# Altium footprint library Transformers.PcbLib: 8 footprints
Each footprint in its own frame and in the unit in brackets; x right, y up, seen from the top. Pads: shape width x height; smd on the part's side, far side on the other; paste and mask are expansions set on the pad; w line width, h text height; cw(c..) or ccw(c..) is an arc to the next point about the centre after c.
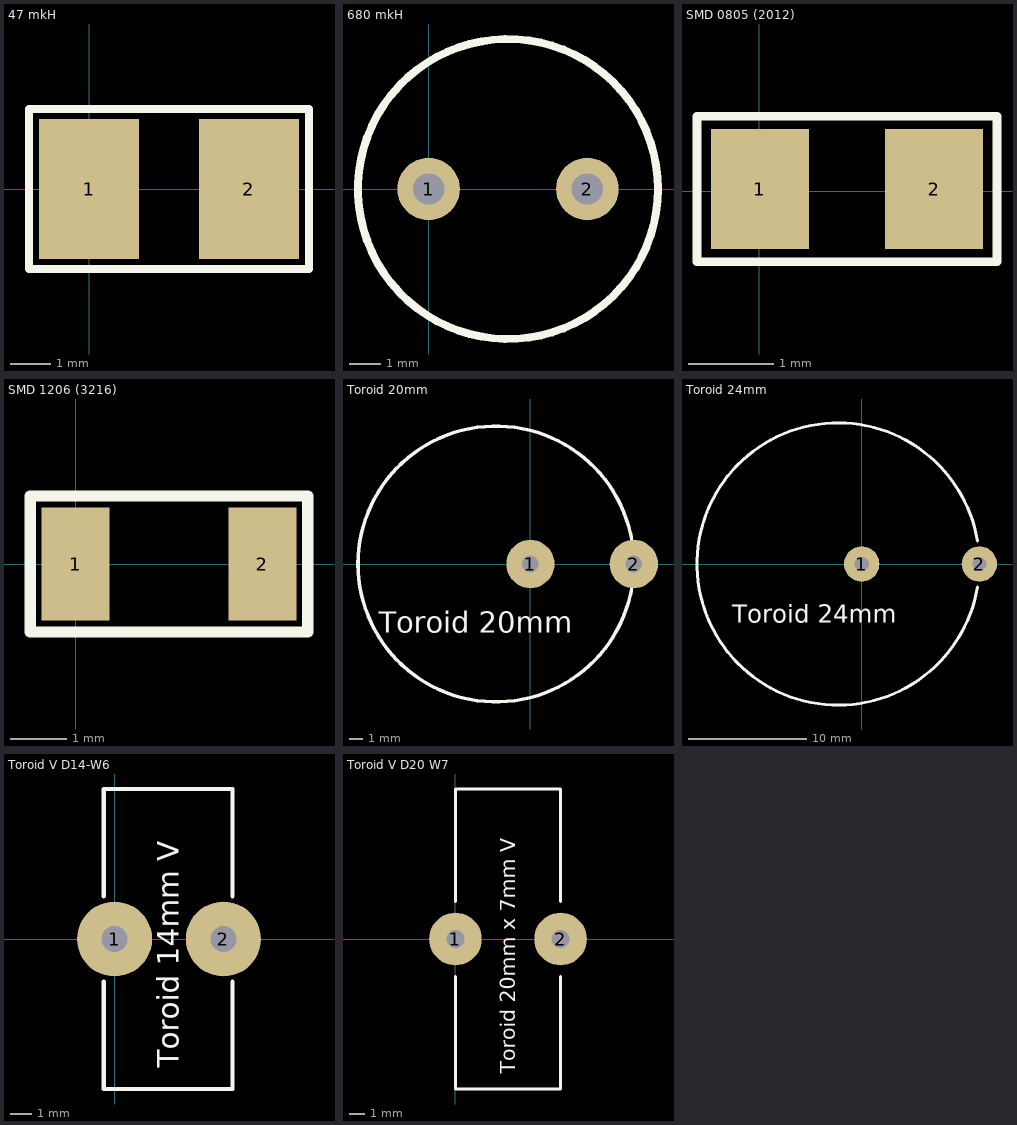
[diagram p0: the footprints below, top view; thin cyan lines are the x and y axes]

## 47 mkH [mm] "47 mkH SMD"
height 2
pads (2):
  rect 2.5x3.5 smd: 1(0,0) 2(4,0)
Top Overlay:
  lines w0.2: -1.5,-2 -1.5,2 5.5,2 5.5,-2 -1.5,-2
3D body "inductor SMD 1812.STEP": height 2.6, standoff 0, extent -0.3,-1.6 4.3,1.6

## 680 mkH [mm] "P5.08mm"
height 16
pads (2):
  round 2 hole 1: 1(0,0) 2(5.08,0)
Top Overlay:
  circle w0.254: c2.54,0 r4.8

## SMD 0805 (2012) [mil]
pads (2):
  rect 45x55 smd: 1(0.35,0.98) 2(80.35,0.98)
Top Overlay:
  lines w3.94: -28.54,-32.48 109.25,-32.48 109.25,34.45 -28.54,34.45 -28.54,-2.48 -28.54,-32.48
3D body "SMD 0805 (2012).step": height 17.76, standoff 0, extent 0.99,-23.61 79.73,25.6

## SMD 1206 (3216) [mm]
pads (2):
  rect 1.2x2 smd: 1(0,0) 2(3.3,0)
Top Overlay:
  lines w0.2: -0.8,-1.2 -0.8,1.2 4.1,1.2 4.1,-1.2 -0.8,-1.2
3D body "SMD 1206 (3216).step": height 0.55, standoff 0, extent 0.05,-0.8 3.25,0.8

## Toroid 20mm [mm] "16.5mm Green ring TEC.ORG"
height 9
pads (2):
  round 3.5 hole 1.2: 1(0,0) 2(7.5,0)
Top Overlay:
  lines w0.254: 7.364,-1.644 cw(c-2.5,0) 7.364,1.644
  text "Toroid 20mm" at -11,-5 h1.52

## Toroid 24mm [mm]
height 10
pads (2):
  round 3 hole 1.2: 1(0,0) 2(10,0)
Top Overlay:
  lines w0.254: 9.837,-1.973 cw(c-2,0) 9.837,1.973
  text "Toroid 24mm" at -11,-5 h1.52
3D body "INDUCTOR - 2100HT series.step": height 11.43, standoff -12.7, extent -12.922,-10.922 8.922,10.922

## Toroid V D14-W6 [mm] "10mm Black ring TEC.ORG"
height 14
pads (2):
  round 3.5 hole 1.2: 1(0,0) 2(5.08,0)
Top Overlay:
  lines w0.2: -0.5,-2 -0.5,-7 5.5,-7 5.5,-2 ; -0.5,2 -0.5,7 5.5,7 5.5,2
  text "Toroid 14mm V" at 3,-6 h1

## Toroid V D20 W7 [mm] "10mm Black ring TEC.ORG"
height 14
pads (2):
  round 3.5 hole 1.2: 1(0,0) 2(7,0)
Top Overlay:
  lines w0.2: 0,-2.5 0,-10 7,-10 7,-2.5 ; 0,2.5 0,10 7,10 7,2.5
  text "Toroid 20mm x 7mm V" at 4,-9 h1
3D body "Toroid.stp": height 20.82, standoff -10.8, extent -0.77,-8.693 7.77,8.693